# Altium schematic symbol library PFC.SchLib: 1 symbol
Pins are listed as number, name and electrical type; pins without a type are passive.

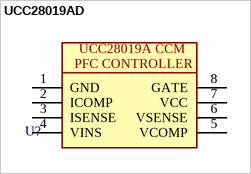
[diagram p0: symbol UCC28019AD]

## UCC28019AD
designator U?
Manufacturer 1: *; Manufacturer Part Number 1: *; Value: *
footprint SOIC127P600X175-8N
pins: 1 GND, 2 ICOMP, 3 ISENSE, 4 VINS, 5 VCOMP, 6 VSENSE, 7 VCC, 8 GATE
text: UCC28019A CCM; PFC CONTROLLER